# EAGLE library part WS2821A (library dodocohedreled)
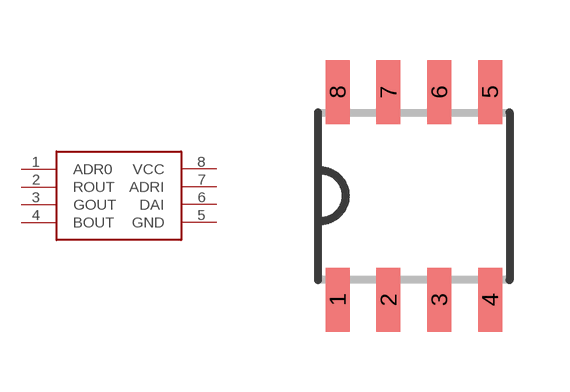
[diagram p0: symbol with the pads of SOP8; footprint SOP8]

Designator prefix -

## WS2821A  [SOP8]
1  ADR0
2  ROUT
3  GOUT
4  BOUT
5  GND
6  DAI
7  ADRI
8  VCC

## Footprint SOP8 (pad centres in mm)
SOP8 Source: http://www.rohm.com/products/databook/motor/pdf/bd623x_series-e.pdf
smd 0.6 x 1.6: 1 -1.905,-2.6; 2 -0.635,-2.6; 3 0.635,-2.6; 4 1.905,-2.6; 5 1.905,2.6; 6 0.635,2.6; 7 -0.635,2.6; 8 -1.905,2.6